# Altium schematic symbol library Custom_Schematic_Parts_Jan_Wendler.SchLib: 2 symbols
Pins are listed as number, name and electrical type; pins without a type are passive.

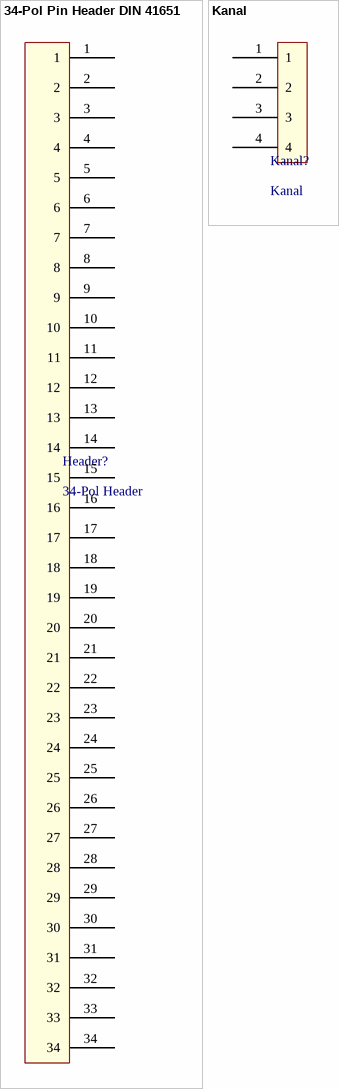
[diagram p0: symbols 34-Pol Pin Header DIN 41651 to Kanal]

## 34-Pol Pin Header DIN 41651
designator Header?, comment 34-Pol Header
Din 41651 34-Pol Pin Header
footprint 34-Pin DIN 41651 Header
footprint 34-Pin Din41651 Header Senkrecht
pins: 1, 2, 3, 4, 5, 6, 7, 8, 9, 10, 11, 12, 13, 14, 15, 16, 17, 18, 19, 20, 21, 22, 23, 24, 25, 26, 27, 28, 29, 30, 31, 32, 33, 34

## Kanal
designator Kanal?
A footprint for the Projekt Erag_Projekt_12.02.2019
footprint Kanal
pins: 1, 2, 3, 4